# Altium schematic symbol library CRCW1206107RFKEA.schlib: 1 symbol
Pins are listed as number, name and electrical type; pins without a type are passive.

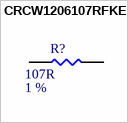
[diagram p0: symbol CRCW1206107RFKEA]

## CRCW1206107RFKEA
designator R?  Tolerance: 1 %  Resistance: 107R  (hidden comment: CRCW1206107RFKEA)
Thick Film Resistors - SMD 1/4watt 107ohms 1%; MFR: Vishay; Qualifications: Automotive Grade; Power Rating: 1/4W; ComponentLink1Description: Datasheet; ComponentLink1URL: https://www.mouser.ca/datasheet/2/427/dcrcwe3-1762152.pdf; Footprint: RES1206; PN: CRCW1206107RFKEA; Package: 1206; Supplier 1: Digi-Key; Supplier Part Number 1: 541-107FCT-ND
footprint RES1206 (Generic 1206 PCB Footprint)
pins: 1, 2